# Altium integrated library ST Automotive Direction Indicator.IntLib: 2 symbols
Pins are listed as number, name and electrical type; pins without a type are passive.

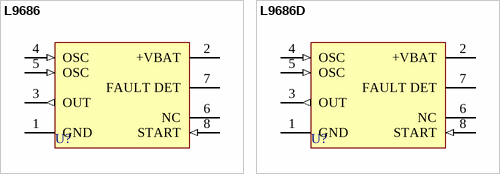
[diagram p0: symbols L9686 to L9686D]

## L9686
designator U?
Automotive Direction Indicator; Note: Pin number 6 is Not Connected (NC).; Published: 24-Aug-2001; LatestRevisionDate: 17-Jul-2002; LatestRevisionNote: Re-released for DXP Platform.; DatasheetDocument: May-1995; PackageReference: DIP8; Publisher: Altium Limited; Code_JEDEC: MO-001-AN
footprint DIP8 (DIP; 8 Leads; Row Spacing 7.62 mm; Pitch 2.54 mm)
pins: 1 GND (power), 2 +VBAT (power), 3 OUT (out), 4 OSC (in), 5 OSC (in), 6 NC, 7 FAULT DET, 8 START (in)

## L9686D
designator U?
Automotive Direction Indicator; Note: Pin number 6 is Not Connected (NC).; Published: 24-Aug-2001; LatestRevisionDate: 17-Jul-2002; LatestRevisionNote: Re-released for DXP Platform.; DatasheetDocument: May-1995; PackageDocument: Jul-1998; PackageReference: SO8; Publisher: Altium Limited; Code_JEDEC: MS-012-AA; Code_IPC: SO8
footprint SO8 (Small Outline; 8 Leads; Body Width 3.9 mm; Pitch 1.27 mm)
pins: 1 GND (power), 2 +VBAT (power), 3 OUT (out), 4 OSC (in), 5 OSC (in), 6 NC, 7 FAULT DET, 8 START (in)